# EAGLE library part 10X-PADS (library BadgeParts)
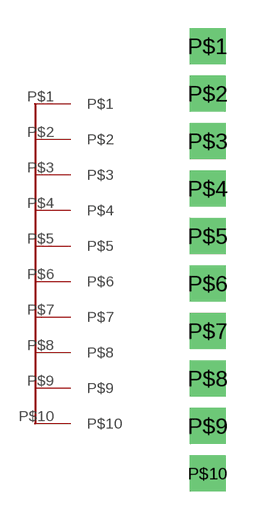
[diagram p7: symbol with the pads of 10X-PADS; footprint 10X-PADS]

Designator prefix -

## 10X-PADS  [10X-PADS]
P$1  P$1
P$2  P$2
P$3  P$3
P$4  P$4
P$5  P$5
P$6  P$6
P$7  P$7
P$8  P$8
P$9  P$9
P$10  P$10

## Footprint 10X-PADS (pad centres in mm)
drill 1 pad 1.93 square: P$1 0,0; P$2 0,-2.54; P$3 0,-5.08; P$4 0,-7.62; P$5 0,-10.16; P$6 0,-12.7; P$7 0,-15.24; P$8 0,-17.78; P$9 0,-20.32; P$10 0,-22.86